# Altium schematic symbol library CGRID_2x3.SchLib: 1 symbol
Pins are listed as number, name and electrical type; pins without a type are passive.

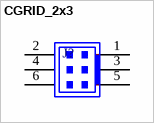
[diagram p0: symbol CGRID_2x3]

## CGRID_2x3
designator J?
=Description
pins: 1, 2, 3, 4, 5, 6